# Altium schematic symbol library CAN-Interface.SchLib: 1 symbol
Pins are listed as number, name and electrical type; pins without a type are passive.

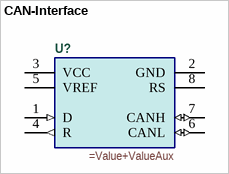
[diagram p0: symbol CAN-Interface]

## CAN-Interface
designator U?
=Description
pins: 1 D (in), 2 GND (power), 3 VCC (power), 4 R (out), 5 VREF (power), 6 CANL (io), 7 CANH (io), 8 RS